# Altium footprint library RT_PC104-M7.PcbLib: 37 footprints (part 1 of 3)
Each footprint in its own frame and in the unit in brackets; x right, y up, seen from the top. Pads: shape width x height; smd on the part's side, far side on the other; paste and mask are expansions set on the pad; w line width, h text height; cw(c..) or ccw(c..) is an arc to the next point about the centre after c.
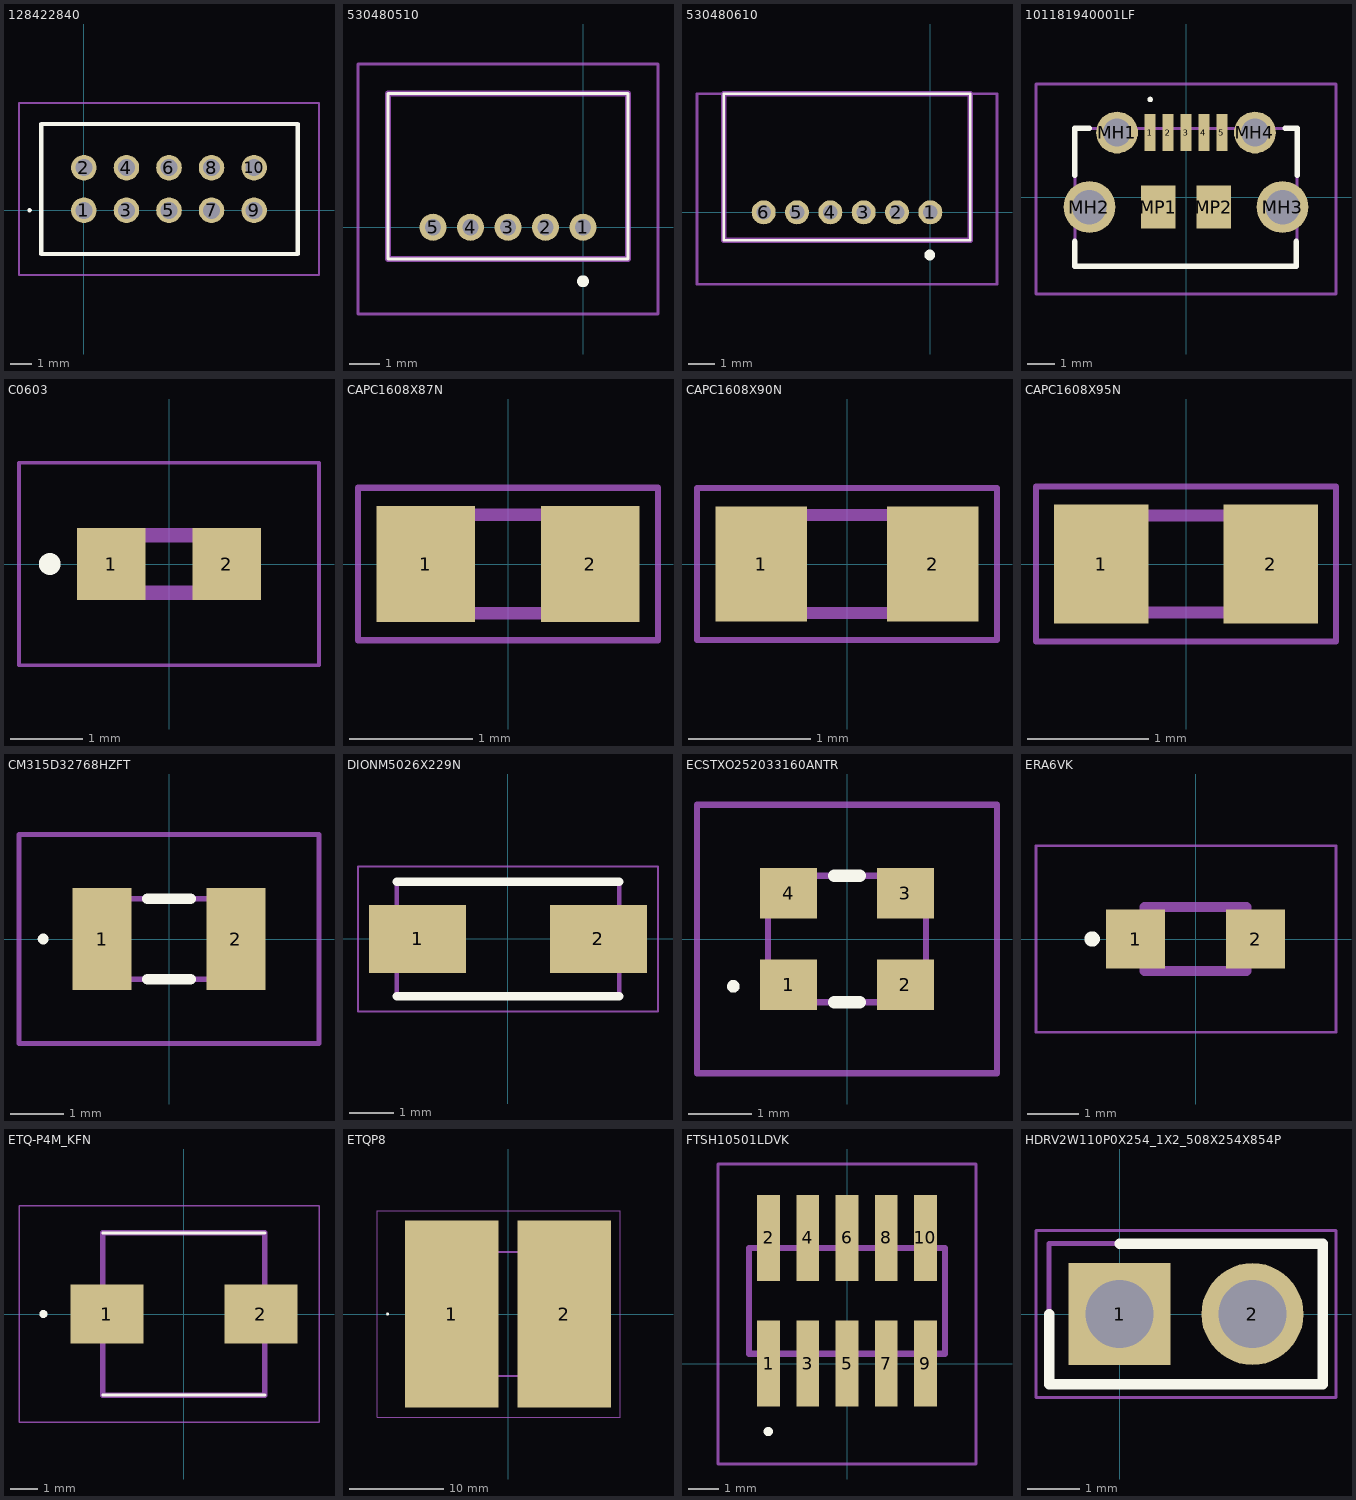
[diagram p0: the footprints below, top view; thin cyan lines are the x and y axes]

## 128422840 [mm]
pads (10):
  round 1.2 hole 0.8: 1(0,0) 2(0,2) 3(2,0) 4(2,2) 5(4,0) 6(4,2) 7(6,0) 8(6,2) 9(8,0) 10(8,2)
Top Overlay:
  lines w0.1: -2.6,0 cw(c-2.55,0) -2.5,0 cw(c-2.55,0) -2.6,0
  lines w0.2: -2,-2.05 -2,4.05 10.05,4.05 10.05,-2.05 -2,-2.05
Mechanical 13:
  lines w0.1: -2.05,-2.05 -2.05,4.05 10.05,4.05 10.05,-2.05 -2.05,-2.05
Mechanical 15:
  lines w0.1: -3.05,-3.05 -3.05,5.05 11.05,5.05 11.05,-3.05 -3.05,-3.05
3D body "1-2842284-0.stp": height 6.05, standoff -2.8, extent -2.05,-2.05 10.05,4.06

## 530480510 [mm]
pads (5):
  round 0.9 hole 0.55: 1(0,0) 2(-1.25,0) 3(-2.5,0) 4(-3.75,0) 5(-5,0)
Top Overlay:
  lines w0.1: -6.5,-1.05 -6.5,4.45 1.5,4.45 1.5,-1.05 -6.5,-1.05
  lines w0.2: -0.1,-1.8 cw(c0,-1.8) 0.1,-1.8 cw(c0,-1.8) -0.1,-1.8
Mechanical 13:
  lines w0.2: -6.5,-1.05 -6.5,4.45 1.5,4.45 1.5,-1.05 -6.5,-1.05
Mechanical 15:
  lines w0.1: -7.5,-2.9 -7.5,5.45 2.5,5.45 2.5,-2.9 -7.5,-2.9
3D body "53048-0510.stp": height 3.33, standoff -2.47, extent -6.5,-1.045 1.5,4.455

## 530480610 [mm]
pads (6):
  round 0.9 hole 0.55: 1(0,0) 2(-1.25,0) 3(-2.5,0) 4(-3.75,0) 5(-5,0) 6(-6.25,0)
Top Overlay:
  lines w0.1: -7.75,-1.05 1.5,-1.05 1.5,4.45 -7.75,4.45 -7.75,-1.05
  lines w0.2: -0.125,-1.6 ccw(c-0.025,-1.6) 0.075,-1.6 ccw(c-0.025,-1.6) -0.125,-1.6
Mechanical 13:
  lines w0.2: -7.75,-1.05 1.5,-1.05 1.5,4.45 -7.75,4.45 -7.75,-1.05
Mechanical 15:
  lines w0.1: -8.75,-2.7 2.5,-2.7 2.5,4.445 -8.75,4.445 -8.75,-2.7
3D body "53048-0610.stp": height 3.27, standoff -2.53, extent -7.745,-1.075 1.505,4.425

## 101181940001LF [mm]
pads (11):
  rect 0.4x1.35 smd: 1(-1.3,2.35) 2(-0.65,2.35) 3(0,2.35) 4(0.65,2.35) 5(1.3,2.35)
  round 1.515 hole 1.01: MH1(-2.5,2.35) MH4(2.5,2.35)
  round 1.875 hole 1.25: MH2(-3.5,-0.35) MH3(3.5,-0.35)
  rect 1.25x1.55 smd: MP1(-1,-0.35) MP2(1,-0.35)
Top Overlay:
  lines w0.1: -1.3,3.5 ccw(c-1.3,3.55) -1.3,3.6 ccw(c-1.3,3.55) -1.3,3.5
  lines w0.2: -4.025,-1.6 -4.025,-2.5 4,-2.5 4,-1.6 ; -4.025,0.8 -4.025,2.5 -3.5,2.5 ; 3.6,2.5 4.025,2.5 4.025,0.8
Mechanical 13:
  lines w0.1: -4.025,-2.5 4.025,-2.5 4.025,2.5 -4.025,2.5 -4.025,-2.5
Mechanical 15:
  lines w0.1: -5.438,-3.5 5.438,-3.5 5.438,4.107 -5.438,4.107 -5.438,-3.5
3D body "10118194-0001LF.stp": height 2.76, standoff -0.51, extent -4.025,-3.07 4.025,2.51

## C0603 [mm]
pads (2):
  rect 0.95x1 smd: 1(-0.8,0) 2(0.8,0)
Top Overlay:
  circle w0.2: c-1.65,0 r0.05
Mechanical 13:
  lines w0.2: -0.8,-0.4 -0.8,0.4 0.8,0.4 0.8,-0.4 -0.8,-0.4
Mechanical 15:
  lines w0.05: -2.075,-1.4 -2.075,1.4 2.075,1.4 2.075,-1.4 -2.075,-1.4
3D body "C0603C104M4RAC7411.stp": height 0.95, standoff 0, extent -0.87,-0.48 0.88,0.47

## CAPC1608X87N [mm]
pads (2):
  rect 0.8x0.94 smd: 1(-0.67,0) 2(0.67,0)
Mechanical 13:
  lines w0.1: -0.8,-0.4 -0.8,0.4 0.8,0.4 0.8,-0.4 -0.8,-0.4
Mechanical 15:
  lines w0.05: -1.22,-0.62 -1.22,0.62 1.22,0.62 1.22,-0.62 -1.22,-0.62
3D body "0603B471K500CT.stp": height 0.87, standoff 0, extent -0.8,-0.4 0.8,0.4

## CAPC1608X90N [mm]
pads (2):
  rect 0.75x0.94 smd: 1(-0.7,0) 2(0.7,0)
Mechanical 13:
  lines w0.1: -0.8,-0.4 -0.8,0.4 0.8,0.4 0.8,-0.4 -0.8,-0.4
Mechanical 15:
  lines w0.05: -1.225,-0.62 -1.225,0.62 1.225,0.62 1.225,-0.62 -1.225,-0.62
3D body "GRM188D71A106KA73D.stp": height 0.8, standoff 0, extent -0.8,-0.45 0.8,0.45

## CAPC1608X95N [mm]
pads (2):
  rect 0.78x0.98 smd: 1(-0.7,0) 2(0.7,0)
Mechanical 13:
  lines w0.1: -0.8,-0.4 -0.8,0.4 0.8,0.4 0.8,-0.4 -0.8,-0.4
Mechanical 15:
  lines w0.05: -1.24,-0.64 -1.24,0.64 1.24,0.64 1.24,-0.64 -1.24,-0.64
3D body "C0603C104M4RAC7867.stp": height 0.87, standoff 0, extent -0.87,-0.48 0.88,0.47

## CM315D32768HZFT [mm]
pads (2):
  rect 1.1x1.9 smd: 1(-1.25,0) 2(1.25,0)
Top Overlay:
  lines w0.1: -2.4,0 cw(c-2.35,0) -2.3,0 cw(c-2.35,0) -2.4,0
  lines w0.2: -0.4,-0.75 0.4,-0.75 ; -0.4,0.75 0.4,0.75
Mechanical 13:
  lines w0.1: -1.6,-0.75 -1.6,0.75 1.6,0.75 1.6,-0.75 -1.6,-0.75
Mechanical 15:
  lines w0.1: -2.8,-1.95 -2.8,1.95 2.8,1.95 2.8,-1.95 -2.8,-1.95

## DIONM5026X229N [mm]
pads (2):
  rect 2.2x1.55 smd: 1(-2.05,0) 2(2.05,0)
Top Overlay:
  lines w0.2: -2.52,-1.298 2.52,-1.298 ; -2.52,1.298 2.52,1.298
Mechanical 13:
  lines w0.1: -2.52,-1.298 -2.52,1.298 2.52,1.298 2.52,-1.298 -2.52,-1.298
Mechanical 15:
  lines w0.05: -3.4,-1.645 -3.4,1.645 3.4,1.645 3.4,-1.645 -3.4,-1.645
3D body "SMAJ30CA.stp": height 2.29, standoff 0, extent -2.52,-1.298 2.52,1.298

## ECSTXO252033160ANTR [mm]
pads (4):
  rect 0.9x0.8 smd: 1(-0.925,-0.725) 2(0.925,-0.725) 3(0.925,0.725) 4(-0.925,0.725)
Top Overlay:
  lines w0.1: -1.8,-0.8 cw(c-1.8,-0.75) -1.8,-0.7 cw(c-1.8,-0.75) -1.8,-0.8
  lines w0.2: -0.2,-1 0.2,-1 ; -0.2,1 0.2,1
Mechanical 13:
  lines w0.1: -1.25,-1 -1.25,1 1.25,1 1.25,-1 -1.25,-1
Mechanical 15:
  lines w0.1: -2.375,-2.125 -2.375,2.125 2.375,2.125 2.375,-2.125 -2.375,-2.125
3D body "ECS-TXO-2520-33-160-AN-TR.stp": height 1.1, standoff 0, extent -1.295,-1.045 1.295,1.045

## ERA6VK [mm]
pads (2):
  rect 1.15x1.15 smd: 1(-1.175,0) 2(1.175,0)
Top Overlay:
  circle w0.2: c-2.025,0 r0.05
Mechanical 13:
  lines w0.2: -1,-0.625 -1,0.625 1,0.625 1,-0.625 -1,-0.625
Mechanical 15:
  lines w0.05: -3.125,-1.825 -3.125,1.825 2.75,1.825 2.75,-1.825 -3.125,-1.825
3D body "ERA-6VEB1200V.stp": height 0.56, standoff 0, extent -1,-0.625 1,0.625

## ETQ-P4M_KFN [mm]
pads (2):
  rect 2.7x2.2 smd: 1(-2.85,0) 2(2.85,0)
Top Overlay:
  circle w0.2: c-5.2,0 r0.05
  lines w0.1: -3,-3 3,-3 ; -3,3 3,3
Mechanical 13:
  lines w0.2: -3,-3 -3,3 3,3 3,-3 -3,-3
Mechanical 15:
  lines w0.05: -6.1,-4 -6.1,4 5,4 5,-4 -6.1,-4
3D body "ETQ-P4M3R3KFN.stp": height 4.8, standoff 0, extent -3.2,-3 3.2,3

## ETQP8 [mm]
pads (2):
  rect 10x20 smd: 1(-6,0) 2(6,0)
Top Overlay:
  circle w0.2: c-12.85,0 r0.05
Mechanical 13:
  lines w0.2: -6.3,-6.6 -6.3,6.6 6.3,6.6 6.3,-6.6 -6.3,-6.6
Mechanical 15:
  lines w0.05: -13.95,-11 -13.95,11 12,11 12,-11 -13.95,-11
3D body "ETQ-P8M3R3JFA.stp": height 8, standoff 0, extent -7.27,-6.55 5.33,6.55

## FTSH10501LDVK [mm]
pads (10):
  rect 0.74x2.79 smd: 1(-2.54,0) 2(-2.54,4.07) 3(-1.27,0) 4(-1.27,4.07) 5(0,0) 6(0,4.07) 7(1.27,0) 8(1.27,4.07) 9(2.54,0) 10(2.54,4.07)
Top Overlay:
  lines w0.2: -2.6,-2.2 ccw(c-2.55,-2.2) -2.5,-2.2 ; -2.6,-2.2 cw(c-2.55,-2.2) -2.5,-2.2 ; -2.6,-2.2 ccw(c-2.55,-2.2) -2.5,-2.2
Mechanical 13:
  lines w0.2: -3.175,0.32 -3.175,3.75 3.175,3.75 3.175,0.32 -3.175,0.32
Mechanical 15:
  lines w0.1: -4.175,-3.25 -4.175,6.465 4.175,6.465 4.175,-3.25 -4.175,-3.25
3D body "FTSH-105-01-L-DV-K.stp": height 6.13, standoff 0, extent -3.175,-0.925 3.175,4.925

## HDRV2W110P0X254_1X2_508X254X854P [mm]
pads (2):
  rect 1.95x1.95 hole 1.3: 1(0,0)
  round 1.95 hole 1.3: 2(2.54,0)
Top Overlay:
  lines w0.2: -1.345,0 -1.345,-1.345 3.885,-1.345 3.885,1.345 0,1.345
Mechanical 13:
  lines w0.1: -1.345,-1.345 3.885,-1.345 3.885,1.345 -1.345,1.345 -1.345,-1.345
Mechanical 15:
  lines w0.05: -1.595,-1.595 4.135,-1.595 4.135,1.595 -1.595,1.595 -1.595,-1.595
3D body "61300211121.stp": height 8.54, standoff -3.15, extent -1.27,-1.27 3.81,1.27